# EAGLE library part GLOBALTOP-FIREFLY1-GMM-G3 (library df4iah_gps)
GlobalTop FireFly 1 (Gmm-g3) gtop-tech.com GNSS Receiver Module based on MediaTek MT3333 data entry: 2015-03-17 by DF4IAH.
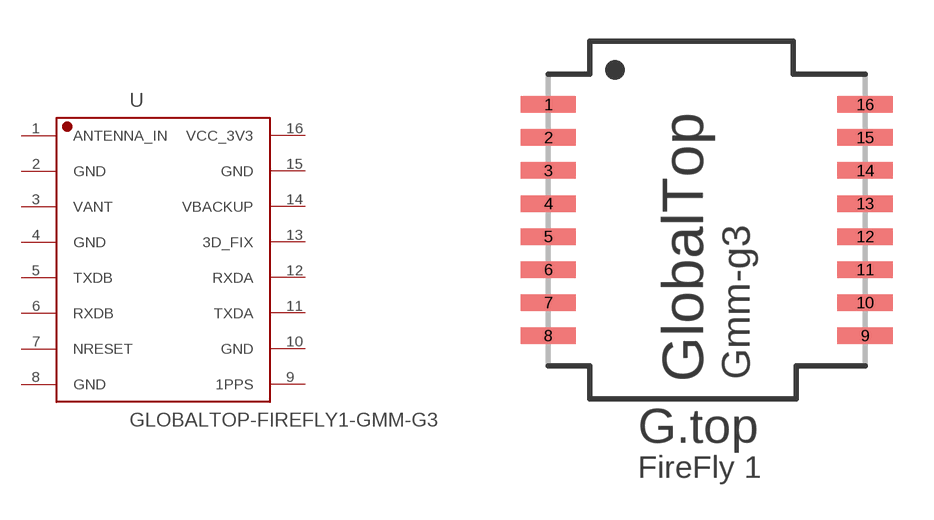
[diagram p0: symbol with the pads of GLOBALTOP-FIREFLY1-GMM-G3; footprint GLOBALTOP-FIREFLY1-GMM-G3]

Designator prefix U

## GLOBALTOP-FIREFLY1-GMM-G3  [GLOBALTOP-FIREFLY1-GMM-G3]
1  ANTENNA_IN  pas
2  GND  pwr
3  VANT  pwr
4  GND  pwr
5  TXDB  out
6  RXDB  in
7  NRESET  in
8  GND  pwr
9  1PPS  out
10  GND  pwr
11  TXDA  out
12  RXDA  in
13  3D_FIX  out
14  VBACKUP  pwr
15  GND  pwr
16  VCC_3V3  pwr

## Footprint GLOBALTOP-FIREFLY1-GMM-G3 (pad centres in mm)
GlobalTop FireFly 1 (Gmm-g3) gtop-tech.com GNSS Receiver Module based on MediaTek MT3333 data entry: 2015-03-17 by DF4IAH.
smd 2 x 0.6: 1 -5.715,4.35; 2 -5.715,3.15; 3 -5.715,1.95; 4 -5.715,0.75; 5 -5.715,-0.45; 6 -5.715,-1.65; 7 -5.715,-2.85; 8 -5.715,-4.05; 9 5.785,-4.05; 10 5.785,-2.85; 11 5.785,-1.65; 12 5.785,-0.45; 13 5.785,0.75; 14 5.785,1.95; 15 5.785,3.15; 16 5.785,4.35